# Altium integrated library Diodes - TVS.IntLib: 5379 symbols (part 31 of 122)
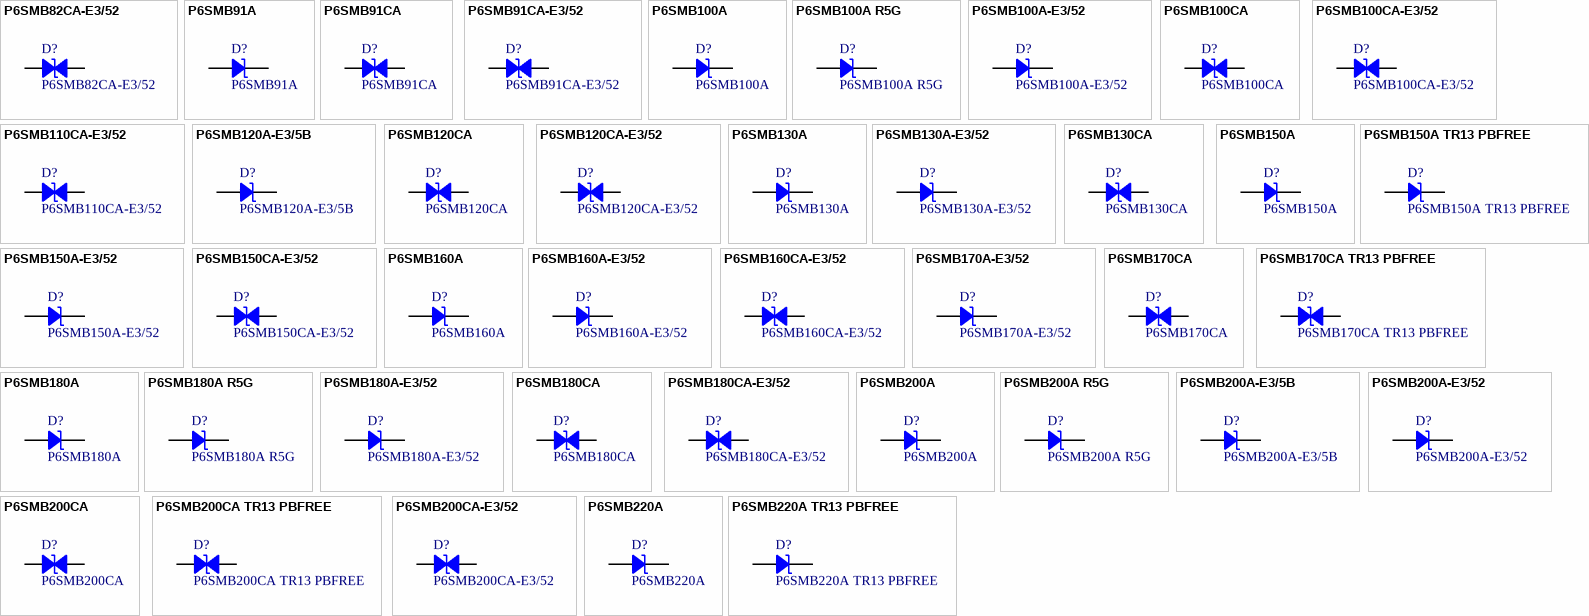
[diagram p164: symbols P6SMB82CA-E3/52 to P6SMB220A TR13 PBFREE]

## P6SMB110CA-E3/52
designator D?
TVS DIODE 94V 152V DO214AA; Manufacturer: Vishay Semiconductor Diodes Division; Bidirectional Channels: 1; Current - Peak Pulse (10/1000µs): 3.9A; Power Line Protection: No; Power - Peak Pulse: 600W; Type: Zener; Voltage - Breakdown (Min): 105V; Part Number: P6SMB110CA-E3/52; Applications: General Purpose; ComponentLink1Description: Datasheet; ComponentLink1URL: http://www.vishay.com/docs/88370/p6smb.pdf; ComponentLink2Description: DigiKey Link; ComponentLink2URL: http://digikey.com/product-detail/en/vishay-semiconductor-diodes-division/P6SMB110CA-E3-52/P6SMB110CA-E3-52GICT-ND/5639085; LastUpdated: 9/2/2020 1:28:22 AM; Lifecycle Status: Active; Minimum Order: 1; Mounting Type: Surface Mount; Operating Temperature: -65°C ~ 150°C (TJ); Package / Case: DO-214AA, SMB; Packaging: TapeAndReel; PartId: 9611; Part Status: Active; Price: 0.20; Series: P6SMB, TransZorb®; Supplier 1: DigiKey; Supplier Part Number 1: P6SMB110CA-E3/52GICT-ND; Supplier Device Package: DO-214AA (SMBJ); Voltage - Clamping (Max) @ Ipp: 152V; Voltage - Reverse Standoff (Typ): 94V
footprint DO214AA SMB
pins: 1, 2

## P6SMB120A-E3/5B
designator D?
TVS DIODE 102V 165V DO214AA; Manufacturer: Vishay Semiconductor Diodes Division; Current - Peak Pulse (10/1000µs): 3.6A; Power Line Protection: No; Power - Peak Pulse: 600W; Type: Zener; Unidirectional Channels: 1; Voltage - Breakdown (Min): 114V; Part Number: P6SMB120A-E3/5B; Applications: General Purpose; ComponentLink1Description: Datasheet; ComponentLink1URL: http://www.vishay.com/docs/88370/p6smb.pdf; ComponentLink2Description: DigiKey Link; ComponentLink2URL: http://digikey.com/product-detail/en/vishay-semiconductor-diodes-division/P6SMB120A-E3-5B/P6SMB120A-E3-5BGICT-ND/3847558; LastUpdated: 9/2/2020 1:19:51 AM; Lifecycle Status: Active; Minimum Order: 1; Mounting Type: Surface Mount; Operating Temperature: -65°C ~ 150°C (TJ); Package / Case: DO-214AA, SMB; Packaging: TapeAndReel; PartId: 11381; Part Status: Active; Price: 0.10; Series: P6SMB, TransZorb®; Supplier 1: DigiKey; Supplier Part Number 1: P6SMB120A-E3/5BGICT-ND; Supplier Device Package: DO-214AA (SMBJ); Voltage - Clamping (Max) @ Ipp: 165V; Voltage - Reverse Standoff (Typ): 102V
footprint DO214AA SMB
pins: 1, 2

## P6SMB120CA
designator D?
TVS DIODE 102V 165V DO214AA; Manufacturer: Bourns Inc.; Bidirectional Channels: 1; Current - Peak Pulse (10/1000µs): 3.7A; Power Line Protection: No; Power - Peak Pulse: 600W; Type: Zener; Voltage - Breakdown (Min): 114V; Part Number: P6SMB120CA; Applications: General Purpose; ComponentLink1Description: Datasheet; ComponentLink1URL: https://www.bourns.com/docs/Product-Datasheets/P6SMB.pdf; ComponentLink2Description: DigiKey Link; ComponentLink2URL: http://digikey.com/product-detail/en/bourns-inc/P6SMB120CA/P6SMB120CABBCT-ND/6708231; LastUpdated: 9/2/2020 1:28:20 AM; Lifecycle Status: Active; Minimum Order: 1; Mounting Type: Surface Mount; Operating Temperature: -55°C ~ 150°C (TJ); Package / Case: DO-214AA, SMB; Packaging: TapeAndReel; PartId: 9392; Part Status: Active; Price: 0.11; Series: -; Supplier 1: DigiKey; Supplier Part Number 1: P6SMB120CABBCT-ND; Supplier Device Package: DO-214AA (SMB); Voltage - Clamping (Max) @ Ipp: 165V; Voltage - Reverse Standoff (Typ): 102V
footprint DO214AA SMB
pins: 1, 2

## P6SMB120CA-E3/52
designator D?
TVS DIODE 102V 165V DO214AA; Manufacturer: Vishay Semiconductor Diodes Division; Bidirectional Channels: 1; Current - Peak Pulse (10/1000µs): 3.6A; Power Line Protection: No; Power - Peak Pulse: 600W; Type: Zener; Voltage - Breakdown (Min): 114V; Part Number: P6SMB120CA-E3/52; Applications: General Purpose; ComponentLink1Description: Datasheet; ComponentLink1URL: http://www.vishay.com/docs/88370/p6smb.pdf; ComponentLink2Description: DigiKey Link; ComponentLink2URL: http://digikey.com/product-detail/en/vishay-semiconductor-diodes-division/P6SMB120CA-E3-52/P6SMB120CA-E3-52GICT-ND/5639086; LastUpdated: 9/2/2020 1:28:22 AM; Lifecycle Status: Active; Minimum Order: 1; Mounting Type: Surface Mount; Operating Temperature: -65°C ~ 150°C (TJ); Package / Case: DO-214AA, SMB; Packaging: TapeAndReel; PartId: 9606; Part Status: Active; Price: 0.20; Series: P6SMB, TransZorb®; Supplier 1: DigiKey; Supplier Part Number 1: P6SMB120CA-E3/52GICT-ND; Supplier Device Package: DO-214AA (SMBJ); Voltage - Clamping (Max) @ Ipp: 165V; Voltage - Reverse Standoff (Typ): 102V
footprint DO214AA SMB
pins: 1, 2

## P6SMB130A
designator D?
TVS DIODE 111V 179V DO214AA; Manufacturer: Littelfuse Inc.; Current - Peak Pulse (10/1000µs): 3.4A; Power Line Protection: No; Power - Peak Pulse: 600W; Type: Zener; Unidirectional Channels: 1; Voltage - Breakdown (Min): 124V; Part Number: P6SMB130A; Applications: General Purpose; ComponentLink1Description: Datasheet; ComponentLink1URL: https://www.littelfuse.com/~/media/electronics/datasheets/tvs_diodes/littelfuse_tvs_diode_p6smb_datasheet.pdf.pdf; ComponentLink2Description: DigiKey Link; ComponentLink2URL: http://digikey.com/product-detail/en/littelfuse-inc/P6SMB130A/P6SMB130ALFCT-ND/1766657; LastUpdated: 9/2/2020 1:19:48 AM; Lifecycle Status: Active; Minimum Order: 1; Mounting Type: Surface Mount; Operating Temperature: -55°C ~ 150°C (TJ); Package / Case: DO-214AA, SMB; Packaging: TapeAndReel; PartId: 11044; Part Status: Active; Price: 0.15; Series: P6SMB; Supplier 1: DigiKey; Supplier Part Number 1: P6SMB130ALFCT-ND; Supplier Device Package: DO-214AA (SMBJ); Voltage - Clamping (Max) @ Ipp: 179V; Voltage - Reverse Standoff (Typ): 111V
footprint DO214AA SMB
pins: 1, 2

## P6SMB130A-E3/52
designator D?
TVS DIODE 111V 179V DO214AA; Manufacturer: Vishay Semiconductor Diodes Division; Current - Peak Pulse (10/1000µs): 3.4A; Power Line Protection: No; Power - Peak Pulse: 600W; Type: Zener; Unidirectional Channels: 1; Voltage - Breakdown (Min): 124V; Part Number: P6SMB130A-E3/52; Applications: General Purpose; ComponentLink1Description: Datasheet; ComponentLink1URL: http://www.vishay.com/docs/88370/p6smb.pdf; ComponentLink2Description: DigiKey Link; ComponentLink2URL: http://digikey.com/product-detail/en/vishay-semiconductor-diodes-division/P6SMB130A-E3-52/P6SMB130A-E3-52GICT-ND/3306481; LastUpdated: 9/2/2020 1:19:44 AM; Lifecycle Status: Active; Minimum Order: 1; Mounting Type: Surface Mount; Operating Temperature: -65°C ~ 150°C (TJ); Package / Case: DO-214AA, SMB; Packaging: TapeAndReel; PartId: 10636; Part Status: Active; Price: 0.15; Series: P6SMB, TransZorb®; Supplier 1: DigiKey; Supplier Part Number 1: P6SMB130A-E3/52GICT-ND; Supplier Device Package: DO-214AA (SMBJ); Voltage - Clamping (Max) @ Ipp: 179V; Voltage - Reverse Standoff (Typ): 111V
footprint DO214AA SMB
pins: 1, 2

## P6SMB130CA
designator D?
TVS DIODE 111V 179V DO214AA; Manufacturer: Bourns Inc.; Bidirectional Channels: 1; Current - Peak Pulse (10/1000µs): 3.4A; Power Line Protection: No; Power - Peak Pulse: 600W; Type: Zener; Voltage - Breakdown (Min): 124V; Part Number: P6SMB130CA; Applications: General Purpose; ComponentLink1Description: Datasheet; ComponentLink1URL: https://www.bourns.com/docs/Product-Datasheets/P6SMB.pdf; ComponentLink2Description: DigiKey Link; ComponentLink2URL: http://digikey.com/product-detail/en/bourns-inc/P6SMB130CA/P6SMB130CABBCT-ND/6708234; LastUpdated: 9/2/2020 1:28:17 AM; Lifecycle Status: Active; Minimum Order: 1; Mounting Type: Surface Mount; Operating Temperature: -55°C ~ 150°C (TJ); Package / Case: DO-214AA, SMB; Packaging: TapeAndReel; PartId: 9104; Part Status: Active; Price: 0.17; Series: -; Supplier 1: DigiKey; Supplier Part Number 1: P6SMB130CABBCT-ND; Supplier Device Package: DO-214AA (SMB); Voltage - Clamping (Max) @ Ipp: 179V; Voltage - Reverse Standoff (Typ): 111V
footprint DO214AA SMB
pins: 1, 2

## P6SMB150A
designator D?
TVS DIODE 128V 207V DO214AA; Manufacturer: Bourns Inc.; Current - Peak Pulse (10/1000µs): 2.9A; Power Line Protection: No; Power - Peak Pulse: 600W; Type: Zener; Unidirectional Channels: 1; Voltage - Breakdown (Min): 143V; Part Number: P6SMB150A; Applications: General Purpose; ComponentLink1Description: Datasheet; ComponentLink1URL: https://www.bourns.com/docs/Product-Datasheets/P6SMB.pdf; ComponentLink2Description: DigiKey Link; ComponentLink2URL: http://digikey.com/product-detail/en/bourns-inc/P6SMB150A/P6SMB150ABBCT-ND/6181594; LastUpdated: 9/2/2020 1:19:47 AM; Lifecycle Status: Active; Minimum Order: 1; Mounting Type: Surface Mount; Operating Temperature: -55°C ~ 150°C (TJ); Package / Case: DO-214AA, SMB; Packaging: TapeAndReel; PartId: 10885; Part Status: Active; Price: 0.09; Series: -; Supplier 1: DigiKey; Supplier Part Number 1: P6SMB150ABBCT-ND; Supplier Device Package: DO-214AA (SMB); Voltage - Clamping (Max) @ Ipp: 207V; Voltage - Reverse Standoff (Typ): 128V
footprint DO214AA SMB
pins: 1, 2

## P6SMB150A TR13 PBFREE
designator D?
TVS DIODE 128V 207V SMB; Manufacturer: Central Semiconductor Corp; Current - Peak Pulse (10/1000µs): 2.9A; Power Line Protection: No; Power - Peak Pulse: 600W; Type: Zener; Unidirectional Channels: 1; Voltage - Breakdown (Min): 142.5V; Part Number: P6SMB150A TR13 PBFREE; Applications: General Purpose; ComponentLink1Description: Datasheet; ComponentLink1URL: https://my.centralsemi.com/get_document.php?cmp=1&mergetype=pd&mergepath=pd&pdf_id=P6SMB6.8CA_200CA.PDF; ComponentLink2Description: DigiKey Link; ComponentLink2URL: http://digikey.com/product-detail/en/central-semiconductor-corp/P6SMB150A-TR13-PBFREE/1514-P6SMB150ATR13PBFREECT-ND/5324614; LastUpdated: 9/2/2020 1:19:48 AM; Lifecycle Status: Active; Minimum Order: 1; Mounting Type: Surface Mount; Operating Temperature: -65°C ~ 150°C (TJ); Package / Case: DO-214AA, SMB; Packaging: TapeAndReel; PartId: 11017; Part Status: Active; Price: 0.19; Series: -; Supplier 1: DigiKey; Supplier Part Number 1: 1514-P6SMB150ATR13PBFREECT-ND; Supplier Device Package: SMB; Voltage - Clamping (Max) @ Ipp: 207V; Voltage - Reverse Standoff (Typ): 128V
footprint DO214AA SMB
pins: 1, 2

## P6SMB150A-E3/52
designator D?
TVS DIODE 128V 207V DO214AA; Manufacturer: Vishay Semiconductor Diodes Division; Current - Peak Pulse (10/1000µs): 2.9A; Power Line Protection: No; Power - Peak Pulse: 600W; Type: Zener; Unidirectional Channels: 1; Voltage - Breakdown (Min): 143V; Part Number: P6SMB150A-E3/52; Applications: General Purpose; ComponentLink1Description: Datasheet; ComponentLink1URL: http://www.vishay.com/docs/88370/p6smb.pdf; ComponentLink2Description: DigiKey Link; ComponentLink2URL: http://digikey.com/product-detail/en/vishay-semiconductor-diodes-division/P6SMB150A-E3-52/P6SMB150A-E3-52GICT-ND/3306485; LastUpdated: 9/2/2020 1:19:49 AM; Lifecycle Status: Active; Minimum Order: 1; Mounting Type: Surface Mount; Operating Temperature: -65°C ~ 150°C (TJ); Package / Case: DO-214AA, SMB; Packaging: TapeAndReel; PartId: 11123; Part Status: Active; Price: 0.15; Series: P6SMB, TransZorb®; Supplier 1: DigiKey; Supplier Part Number 1: P6SMB150A-E3/52GICT-ND; Supplier Device Package: DO-214AA (SMBJ); Voltage - Clamping (Max) @ Ipp: 207V; Voltage - Reverse Standoff (Typ): 128V
footprint DO214AA SMB
pins: 1, 2

## P6SMB150CA-E3/52
designator D?
TVS DIODE 128V 207V DO214AA; Manufacturer: Vishay Semiconductor Diodes Division; Bidirectional Channels: 1; Current - Peak Pulse (10/1000µs): 2.9A; Power Line Protection: No; Power - Peak Pulse: 600W; Type: Zener; Voltage - Breakdown (Min): 143V; Part Number: P6SMB150CA-E3/52; Applications: General Purpose; ComponentLink1Description: Datasheet; ComponentLink1URL: http://www.vishay.com/docs/88370/p6smb.pdf; ComponentLink2Description: DigiKey Link; ComponentLink2URL: http://digikey.com/product-detail/en/vishay-semiconductor-diodes-division/P6SMB150CA-E3-52/P6SMB150CA-E3-52GICT-ND/3306486; LastUpdated: 9/2/2020 1:28:16 AM; Lifecycle Status: Active; Minimum Order: 1; Mounting Type: Surface Mount; Operating Temperature: -65°C ~ 150°C (TJ); Package / Case: DO-214AA, SMB; Packaging: TapeAndReel; PartId: 8926; Part Status: Active; Price: 0.20; Series: P6SMB, TransZorb®; Supplier 1: DigiKey; Supplier Part Number 1: P6SMB150CA-E3/52GICT-ND; Supplier Device Package: DO-214AA (SMBJ); Voltage - Clamping (Max) @ Ipp: 207V; Voltage - Reverse Standoff (Typ): 128V
footprint DO214AA SMB
pins: 1, 2

## P6SMB160A
designator D?
TVS DIODE 136V 219V DO214AA; Manufacturer: Bourns Inc.; Current - Peak Pulse (10/1000µs): 2.8A; Power Line Protection: No; Power - Peak Pulse: 600W; Type: Zener; Unidirectional Channels: 1; Voltage - Breakdown (Min): 152V; Part Number: P6SMB160A; Applications: General Purpose; ComponentLink1Description: Datasheet; ComponentLink1URL: https://www.bourns.com/docs/Product-Datasheets/P6SMB.pdf; ComponentLink2Description: DigiKey Link; ComponentLink2URL: http://digikey.com/product-detail/en/bourns-inc/P6SMB160A/P6SMB160ABBCT-ND/6708237; LastUpdated: 9/2/2020 1:19:43 AM; Lifecycle Status: Active; Minimum Order: 1; Mounting Type: Surface Mount; Operating Temperature: -55°C ~ 150°C (TJ); Package / Case: DO-214AA, SMB; Packaging: TapeAndReel; PartId: 10560; Part Status: Active; Price: 0.10; Series: -; Supplier 1: DigiKey; Supplier Part Number 1: P6SMB160ABBCT-ND; Supplier Device Package: DO-214AA (SMB); Voltage - Clamping (Max) @ Ipp: 219V; Voltage - Reverse Standoff (Typ): 136V
footprint DO214AA SMB
pins: 1, 2

## P6SMB160A-E3/52
designator D?
TVS DIODE 136V 219V DO214AA; Manufacturer: Vishay Semiconductor Diodes Division; Current - Peak Pulse (10/1000µs): 2.7A; Power Line Protection: No; Power - Peak Pulse: 600W; Type: Zener; Unidirectional Channels: 1; Voltage - Breakdown (Min): 152V; Part Number: P6SMB160A-E3/52; Applications: General Purpose; ComponentLink1Description: Datasheet; ComponentLink1URL: http://www.vishay.com/docs/88370/p6smb.pdf; ComponentLink2Description: DigiKey Link; ComponentLink2URL: http://digikey.com/product-detail/en/vishay-semiconductor-diodes-division/P6SMB160A-E3-52/P6SMB160A-E3-52GICT-ND/2413464; LastUpdated: 9/2/2020 1:19:44 AM; Lifecycle Status: Active; Minimum Order: 1; Mounting Type: Surface Mount; Operating Temperature: -65°C ~ 150°C (TJ); Package / Case: DO-214AA, SMB; Packaging: TapeAndReel; PartId: 10637; Part Status: Active; Price: 0.15; Series: P6SMB, TransZorb®; Supplier 1: DigiKey; Supplier Part Number 1: P6SMB160A-E3/52GICT-ND; Supplier Device Package: DO-214AA (SMBJ); Voltage - Clamping (Max) @ Ipp: 219V; Voltage - Reverse Standoff (Typ): 136V
footprint DO214AA SMB
pins: 1, 2

## P6SMB160CA-E3/52
designator D?
TVS DIODE 136V 219V DO214AA; Manufacturer: Vishay Semiconductor Diodes Division; Bidirectional Channels: 1; Current - Peak Pulse (10/1000µs): 2.7A; Power Line Protection: No; Power - Peak Pulse: 600W; Type: Zener; Voltage - Breakdown (Min): 152V; Part Number: P6SMB160CA-E3/52; Applications: General Purpose; ComponentLink1Description: Datasheet; ComponentLink1URL: http://www.vishay.com/docs/88370/p6smb.pdf; ComponentLink2Description: DigiKey Link; ComponentLink2URL: http://digikey.com/product-detail/en/vishay-semiconductor-diodes-division/P6SMB160CA-E3-52/P6SMB160CA-E3-52GICT-ND/5639087; LastUpdated: 9/2/2020 1:28:16 AM; Lifecycle Status: Active; Minimum Order: 1; Mounting Type: Surface Mount; Operating Temperature: -65°C ~ 150°C (TJ); Package / Case: DO-214AA, SMB; Packaging: TapeAndReel; PartId: 8927; Part Status: Active; Price: 0.20; Series: P6SMB, TransZorb®; Supplier 1: DigiKey; Supplier Part Number 1: P6SMB160CA-E3/52GICT-ND; Supplier Device Package: DO-214AA (SMBJ); Voltage - Clamping (Max) @ Ipp: 219V; Voltage - Reverse Standoff (Typ): 136V
footprint DO214AA SMB
pins: 1, 2

## P6SMB170A-E3/52
designator D?
TVS DIODE 145V 234V DO214AA; Manufacturer: Vishay Semiconductor Diodes Division; Current - Peak Pulse (10/1000µs): 2.6A; Power Line Protection: No; Power - Peak Pulse: 600W; Type: Zener; Unidirectional Channels: 1; Voltage - Breakdown (Min): 162V; Part Number: P6SMB170A-E3/52; Applications: General Purpose; ComponentLink1Description: Datasheet; ComponentLink1URL: http://www.vishay.com/docs/88370/p6smb.pdf; ComponentLink2Description: DigiKey Link; ComponentLink2URL: http://digikey.com/product-detail/en/vishay-semiconductor-diodes-division/P6SMB170A-E3-52/P6SMB170A-E3-52GICT-ND/5639088; LastUpdated: 9/2/2020 1:19:44 AM; Lifecycle Status: Active; Minimum Order: 1; Mounting Type: Surface Mount; Operating Temperature: -65°C ~ 150°C (TJ); Package / Case: DO-214AA, SMB; Packaging: TapeAndReel; PartId: 10630; Part Status: Active; Price: 0.15; Series: P6SMB, TransZorb®; Supplier 1: DigiKey; Supplier Part Number 1: P6SMB170A-E3/52GICT-ND; Supplier Device Package: DO-214AA (SMBJ); Voltage - Clamping (Max) @ Ipp: 234V; Voltage - Reverse Standoff (Typ): 145V
footprint DO214AA SMB
pins: 1, 2

## P6SMB170CA
designator D?
TVS DIODE 145V 234V DO214AA; Manufacturer: Bourns Inc.; Bidirectional Channels: 1; Current - Peak Pulse (10/1000µs): 2.6A; Power Line Protection: No; Power - Peak Pulse: 600W; Type: Zener; Voltage - Breakdown (Min): 162V; Part Number: P6SMB170CA; Applications: General Purpose; ComponentLink1Description: Datasheet; ComponentLink1URL: https://www.bourns.com/docs/Product-Datasheets/P6SMB.pdf; ComponentLink2Description: DigiKey Link; ComponentLink2URL: http://digikey.com/product-detail/en/bourns-inc/P6SMB170CA/P6SMB170CABBCT-ND/6708239; LastUpdated: 9/2/2020 1:28:17 AM; Lifecycle Status: Active; Minimum Order: 1; Mounting Type: Surface Mount; Operating Temperature: -55°C ~ 150°C (TJ); Package / Case: DO-214AA, SMB; Packaging: TapeAndReel; PartId: 9035; Part Status: Active; Price: 0.17; Series: -; Supplier 1: DigiKey; Supplier Part Number 1: P6SMB170CABBCT-ND; Supplier Device Package: DO-214AA (SMB); Voltage - Clamping (Max) @ Ipp: 234V; Voltage - Reverse Standoff (Typ): 145V
footprint DO214AA SMB
pins: 1, 2

## P6SMB170CA TR13 PBFREE
designator D?
TVS DIODE 145V 234V SMB; Manufacturer: Central Semiconductor Corp; Bidirectional Channels: 1; Current - Peak Pulse (10/1000µs): 2.6A; Power Line Protection: No; Power - Peak Pulse: 600W; Type: Zener; Voltage - Breakdown (Min): 161.5V; Part Number: P6SMB170CA TR13 PBFREE; Applications: General Purpose; ComponentLink1Description: Datasheet; ComponentLink1URL: https://my.centralsemi.com/get_document.php?cmp=1&mergetype=pd&mergepath=pd&pdf_id=P6SMB6.8CA_200CA.PDF; ComponentLink2Description: DigiKey Link; ComponentLink2URL: http://digikey.com/product-detail/en/central-semiconductor-corp/P6SMB170CA-TR13-PBFREE/1514-P6SMB170CATR13PBFREECT-ND/5324615; LastUpdated: 9/2/2020 1:28:21 AM; Lifecycle Status: Active; Minimum Order: 1; Mounting Type: Surface Mount; Operating Temperature: -65°C ~ 150°C (TJ); Package / Case: DO-214AA, SMB; Packaging: TapeAndReel; PartId: 9596; Part Status: Active; Price: 0.23; Series: -; Supplier 1: DigiKey; Supplier Part Number 1: 1514-P6SMB170CATR13PBFREECT-ND; Supplier Device Package: SMB; Voltage - Clamping (Max) @ Ipp: 234V; Voltage - Reverse Standoff (Typ): 145V
footprint DO214AA SMB
pins: 1, 2

## P6SMB180A
designator D?
TVS DIODE 154V 246V DO214AA; Manufacturer: Bourns Inc.; Current - Peak Pulse (10/1000µs): 2.5A; Power Line Protection: No; Power - Peak Pulse: 600W; Type: Zener; Unidirectional Channels: 1; Voltage - Breakdown (Min): 171V; Part Number: P6SMB180A; Applications: General Purpose; ComponentLink1Description: Datasheet; ComponentLink1URL: https://www.bourns.com/docs/Product-Datasheets/P6SMB.pdf; ComponentLink2Description: DigiKey Link; ComponentLink2URL: http://digikey.com/product-detail/en/bourns-inc/P6SMB180A/P6SMB180ABBCT-ND/6181597; LastUpdated: 9/2/2020 1:19:44 AM; Lifecycle Status: Active; Minimum Order: 1; Mounting Type: Surface Mount; Operating Temperature: -55°C ~ 150°C (TJ); Package / Case: DO-214AA, SMB; Packaging: TapeAndReel; PartId: 10670; Part Status: Active; Price: 0.09; Series: -; Supplier 1: DigiKey; Supplier Part Number 1: P6SMB180ABBCT-ND; Supplier Device Package: DO-214AA (SMB); Voltage - Clamping (Max) @ Ipp: 246V; Voltage - Reverse Standoff (Typ): 154V
footprint DO214AA SMB
pins: 1, 2

## P6SMB180A R5G
designator D?
TVS DIODE 154V 246V DO214AA; Manufacturer: Taiwan Semiconductor Corporation; Current - Peak Pulse (10/1000µs): 2.5A; Power Line Protection: No; Power - Peak Pulse: 600W; Type: Zener; Unidirectional Channels: 1; Voltage - Breakdown (Min): 171V; Part Number: P6SMB180A R5G; Applications: General Purpose; ComponentLink1Description: Datasheet; ComponentLink1URL: https://www.taiwansemi.com/products/datasheet/P6SMB%20SERIES_N1701.pdf; ComponentLink2Description: DigiKey Link; ComponentLink2URL: http://digikey.com/product-detail/en/taiwan-semiconductor-corporation/P6SMB180A-R5G/P6SMB180AR5GCT-ND/7357978; LastUpdated: 9/2/2020 1:19:50 AM; Lifecycle Status: Active; Minimum Order: 1; Mounting Type: Surface Mount; Operating Temperature: -55°C ~ 150°C (TJ); Package / Case: DO-214AA, SMB; Packaging: TapeAndReel; PartId: 11292; Part Status: Active; Price: 0.31; Series: P6SMB; Supplier 1: DigiKey; Supplier Part Number 1: P6SMB180AR5GCT-ND; Supplier Device Package: DO-214AA (SMB); Voltage - Clamping (Max) @ Ipp: 246V; Voltage - Reverse Standoff (Typ): 154V
footprint DO214AA SMB
pins: 1, 2

## P6SMB180A-E3/52
designator D?
TVS DIODE 154V 246V DO214AA; Manufacturer: Vishay Semiconductor Diodes Division; Current - Peak Pulse (10/1000µs): 2.4A; Power Line Protection: No; Power - Peak Pulse: 600W; Type: Zener; Unidirectional Channels: 1; Voltage - Breakdown (Min): 171V; Part Number: P6SMB180A-E3/52; Applications: General Purpose; ComponentLink1Description: Datasheet; ComponentLink1URL: http://www.vishay.com/docs/88370/p6smb.pdf; ComponentLink2Description: DigiKey Link; ComponentLink2URL: http://digikey.com/product-detail/en/vishay-semiconductor-diodes-division/P6SMB180A-E3-52/P6SMB180A-E3-52GICT-ND/5639090; LastUpdated: 9/2/2020 1:19:44 AM; Lifecycle Status: Active; Minimum Order: 1; Mounting Type: Surface Mount; Operating Temperature: -65°C ~ 150°C (TJ); Package / Case: DO-214AA, SMB; Packaging: TapeAndReel; PartId: 10641; Part Status: Active; Price: 0.15; Series: P6SMB, TransZorb®; Supplier 1: DigiKey; Supplier Part Number 1: P6SMB180A-E3/52GICT-ND; Supplier Device Package: DO-214AA (SMBJ); Voltage - Clamping (Max) @ Ipp: 246V; Voltage - Reverse Standoff (Typ): 154V
footprint DO214AA SMB
pins: 1, 2

## P6SMB180CA
designator D?
TVS DIODE 154V 246V DO214AA; Manufacturer: Bourns Inc.; Bidirectional Channels: 1; Current - Peak Pulse (10/1000µs): 2.5A; Power Line Protection: No; Power - Peak Pulse: 600W; Type: Zener; Voltage - Breakdown (Min): 171V; Part Number: P6SMB180CA; Applications: General Purpose; ComponentLink1Description: Datasheet; ComponentLink1URL: https://www.bourns.com/docs/Product-Datasheets/P6SMB.pdf; ComponentLink2Description: DigiKey Link; ComponentLink2URL: http://digikey.com/product-detail/en/bourns-inc/P6SMB180CA/P6SMB180CABBCT-ND/6708240; LastUpdated: 9/2/2020 1:28:16 AM; Lifecycle Status: Active; Minimum Order: 1; Mounting Type: Surface Mount; Operating Temperature: -55°C ~ 150°C (TJ); Package / Case: DO-214AA, SMB; Packaging: TapeAndReel; PartId: 8958; Part Status: Active; Price: 0.17; Series: -; Supplier 1: DigiKey; Supplier Part Number 1: P6SMB180CABBCT-ND; Supplier Device Package: DO-214AA (SMB); Voltage - Clamping (Max) @ Ipp: 246V; Voltage - Reverse Standoff (Typ): 154V
footprint DO214AA SMB
pins: 1, 2

## P6SMB180CA-E3/52
designator D?
TVS DIODE 154V 246V DO214AA; Manufacturer: Vishay Semiconductor Diodes Division; Bidirectional Channels: 1; Current - Peak Pulse (10/1000µs): 2.4A; Power Line Protection: No; Power - Peak Pulse: 600W; Type: Zener; Voltage - Breakdown (Min): 171V; Part Number: P6SMB180CA-E3/52; Applications: General Purpose; ComponentLink1Description: Datasheet; ComponentLink1URL: http://www.vishay.com/docs/88370/p6smb.pdf; ComponentLink2Description: DigiKey Link; ComponentLink2URL: http://digikey.com/product-detail/en/vishay-semiconductor-diodes-division/P6SMB180CA-E3-52/P6SMB180CA-E3-52GICT-ND/5639091; LastUpdated: 9/2/2020 1:28:21 AM; Lifecycle Status: Active; Minimum Order: 1; Mounting Type: Surface Mount; Operating Temperature: -65°C ~ 150°C (TJ); Package / Case: DO-214AA, SMB; Packaging: TapeAndReel; PartId: 9604; Part Status: Active; Price: 0.20; Series: P6SMB, TransZorb®; Supplier 1: DigiKey; Supplier Part Number 1: P6SMB180CA-E3/52GICT-ND; Supplier Device Package: DO-214AA (SMBJ); Voltage - Clamping (Max) @ Ipp: 246V; Voltage - Reverse Standoff (Typ): 154V
footprint DO214AA SMB
pins: 1, 2

## P6SMB200A
designator D?
TVS DIODE 171V 274V DO214AA; Manufacturer: Bourns Inc.; Current - Peak Pulse (10/1000µs): 2.2A; Power Line Protection: No; Power - Peak Pulse: 600W; Type: Zener; Unidirectional Channels: 1; Voltage - Breakdown (Min): 190V; Part Number: P6SMB200A; Applications: General Purpose; ComponentLink1Description: Datasheet; ComponentLink1URL: https://www.bourns.com/docs/Product-Datasheets/P6SMB.pdf; ComponentLink2Description: DigiKey Link; ComponentLink2URL: http://digikey.com/product-detail/en/bourns-inc/P6SMB200A/P6SMB200ABBCT-ND/6181599; LastUpdated: 9/2/2020 1:19:47 AM; Lifecycle Status: Active; Minimum Order: 1; Mounting Type: Surface Mount; Operating Temperature: -55°C ~ 150°C (TJ); Package / Case: DO-214AA, SMB; Packaging: TapeAndReel; PartId: 10892; Part Status: Active; Price: 0.09; Series: -; Supplier 1: DigiKey; Supplier Part Number 1: P6SMB200ABBCT-ND; Supplier Device Package: DO-214AA (SMB); Voltage - Clamping (Max) @ Ipp: 274V; Voltage - Reverse Standoff (Typ): 171V
footprint DO214AA SMB
pins: 1, 2

## P6SMB200A R5G
designator D?
TVS DIODE 171V 274V DO214AA; Manufacturer: Taiwan Semiconductor Corporation; Current - Peak Pulse (10/1000µs): 2.2A; Power Line Protection: No; Power - Peak Pulse: 600W; Type: Zener; Unidirectional Channels: 1; Voltage - Breakdown (Min): 190V; Part Number: P6SMB200A R5G; Applications: General Purpose; ComponentLink1Description: Datasheet; ComponentLink1URL: https://www.taiwansemi.com/products/datasheet/P6SMB%20SERIES_N1701.pdf; ComponentLink2Description: DigiKey Link; ComponentLink2URL: http://digikey.com/product-detail/en/taiwan-semiconductor-corporation/P6SMB200A-R5G/P6SMB200AR5GCT-ND/7357981; LastUpdated: 9/2/2020 1:19:50 AM; Lifecycle Status: Active; Minimum Order: 1; Mounting Type: Surface Mount; Operating Temperature: -55°C ~ 150°C (TJ); Package / Case: DO-214AA, SMB; Packaging: TapeAndReel; PartId: 11293; Part Status: Active; Price: 0.31; Series: P6SMB; Supplier 1: DigiKey; Supplier Part Number 1: P6SMB200AR5GCT-ND; Supplier Device Package: DO-214AA (SMB); Voltage - Clamping (Max) @ Ipp: 274V; Voltage - Reverse Standoff (Typ): 171V
footprint DO214AA SMB
pins: 1, 2

## P6SMB200A-E3/5B
designator D?
TVS DIODE 171V 274V DO214AA; Manufacturer: Vishay Semiconductor Diodes Division; Current - Peak Pulse (10/1000µs): 2.2A; Power Line Protection: No; Power - Peak Pulse: 600W; Type: Zener; Unidirectional Channels: 1; Voltage - Breakdown (Min): 190V; Part Number: P6SMB200A-E3/5B; Applications: General Purpose; ComponentLink1Description: Datasheet; ComponentLink1URL: http://www.vishay.com/docs/88370/p6smb.pdf; ComponentLink2Description: DigiKey Link; ComponentLink2URL: http://digikey.com/product-detail/en/vishay-semiconductor-diodes-division/P6SMB200A-E3-5B/P6SMB200A-E3-5BGICT-ND/9600824; LastUpdated: 9/2/2020 1:19:51 AM; Lifecycle Status: Active; Minimum Order: 1; Mounting Type: Surface Mount; Operating Temperature: -65°C ~ 150°C (TJ); Package / Case: DO-214AA, SMB; Packaging: TapeAndReel; PartId: 11375; Part Status: Active; Price: 0.10; Series: P6SMB, TransZorb®; Supplier 1: DigiKey; Supplier Part Number 1: P6SMB200A-E3/5BGICT-ND; Supplier Device Package: DO-214AA (SMB); Voltage - Clamping (Max) @ Ipp: 274V; Voltage - Reverse Standoff (Typ): 171V
footprint DO214AA SMB
pins: 1, 2

## P6SMB200A-E3/52
designator D?
TVS DIODE 171V 274V DO214AA; Manufacturer: Vishay Semiconductor Diodes Division; Current - Peak Pulse (10/1000µs): 2.2A; Power Line Protection: No; Power - Peak Pulse: 600W; Type: Zener; Unidirectional Channels: 1; Voltage - Breakdown (Min): 190V; Part Number: P6SMB200A-E3/52; Applications: General Purpose; ComponentLink1Description: Datasheet; ComponentLink1URL: http://www.vishay.com/docs/88370/p6smb.pdf; ComponentLink2Description: DigiKey Link; ComponentLink2URL: http://digikey.com/product-detail/en/vishay-semiconductor-diodes-division/P6SMB200A-E3-52/P6SMB200A-E3-52GICT-ND/2413379; LastUpdated: 9/2/2020 1:19:44 AM; Lifecycle Status: Active; Minimum Order: 1; Mounting Type: Surface Mount; Operating Temperature: -65°C ~ 150°C (TJ); Package / Case: DO-214AA, SMB; Packaging: TapeAndReel; PartId: 10640; Part Status: Active; Price: 0.15; Series: P6SMB, TransZorb®; Supplier 1: DigiKey; Supplier Part Number 1: P6SMB200A-E3/52GICT-ND; Supplier Device Package: DO-214AA (SMB); Voltage - Clamping (Max) @ Ipp: 274V; Voltage - Reverse Standoff (Typ): 171V
footprint DO214AA SMB
pins: 1, 2

## P6SMB200CA
designator D?
TVS DIODE 171V 274V DO214AA; Manufacturer: Bourns Inc.; Bidirectional Channels: 1; Current - Peak Pulse (10/1000µs): 2.2A; Power Line Protection: No; Power - Peak Pulse: 600W; Type: Zener; Voltage - Breakdown (Min): 190V; Part Number: P6SMB200CA; Applications: General Purpose; ComponentLink1Description: Datasheet; ComponentLink1URL: https://www.bourns.com/docs/Product-Datasheets/P6SMB.pdf; ComponentLink2Description: DigiKey Link; ComponentLink2URL: http://digikey.com/product-detail/en/bourns-inc/P6SMB200CA/P6SMB200CABBCT-ND/6708242; LastUpdated: 9/2/2020 1:28:20 AM; Lifecycle Status: Active; Minimum Order: 1; Mounting Type: Surface Mount; Operating Temperature: -55°C ~ 150°C (TJ); Package / Case: DO-214AA, SMB; Packaging: TapeAndReel; PartId: 9357; Part Status: Active; Price: 0.17; Series: -; Supplier 1: DigiKey; Supplier Part Number 1: P6SMB200CABBCT-ND; Supplier Device Package: DO-214AA (SMB); Voltage - Clamping (Max) @ Ipp: 274V; Voltage - Reverse Standoff (Typ): 171V
footprint DO214AA SMB
pins: 1, 2

## P6SMB200CA TR13 PBFREE
designator D?
TVS DIODE 171V 274V SMB; Manufacturer: Central Semiconductor Corp; Bidirectional Channels: 1; Current - Peak Pulse (10/1000µs): 2.2A; Power Line Protection: No; Power - Peak Pulse: 600W; Type: Zener; Voltage - Breakdown (Min): 190V; Part Number: P6SMB200CA TR13 PBFREE; Applications: General Purpose; ComponentLink1Description: Datasheet; ComponentLink1URL: https://my.centralsemi.com/get_document.php?cmp=1&mergetype=pd&mergepath=pd&pdf_id=P6SMB6.8CA_200CA.PDF; ComponentLink2Description: DigiKey Link; ComponentLink2URL: http://digikey.com/product-detail/en/central-semiconductor-corp/P6SMB200CA-TR13-PBFREE/1514-P6SMB200CATR13PBFREECT-ND/5324617; LastUpdated: 9/2/2020 1:28:17 AM; Lifecycle Status: Active; Minimum Order: 1; Mounting Type: Surface Mount; Operating Temperature: -65°C ~ 150°C (TJ); Package / Case: DO-214AA, SMB; Packaging: TapeAndReel; PartId: 9009; Part Status: Active; Price: 0.45; Series: -; Supplier 1: DigiKey; Supplier Part Number 1: 1514-P6SMB200CATR13PBFREECT-ND; Supplier Device Package: SMB; Voltage - Clamping (Max) @ Ipp: 274V; Voltage - Reverse Standoff (Typ): 171V
footprint DO214AA SMB
pins: 1, 2

## P6SMB200CA-E3/52
designator D?
TVS DIODE 171V 274V DO214AA; Manufacturer: Vishay Semiconductor Diodes Division; Bidirectional Channels: 1; Current - Peak Pulse (10/1000µs): 2.2A; Power Line Protection: No; Power - Peak Pulse: 600W; Type: Zener; Voltage - Breakdown (Min): 190V; Part Number: P6SMB200CA-E3/52; Applications: General Purpose; ComponentLink1Description: Datasheet; ComponentLink1URL: http://www.vishay.com/docs/88370/p6smb.pdf; ComponentLink2Description: DigiKey Link; ComponentLink2URL: http://digikey.com/product-detail/en/vishay-semiconductor-diodes-division/P6SMB200CA-E3-52/P6SMB200CA-E3-52GICT-ND/3306493; LastUpdated: 9/2/2020 1:28:16 AM; Lifecycle Status: Active; Minimum Order: 1; Mounting Type: Surface Mount; Operating Temperature: -65°C ~ 150°C (TJ); Package / Case: DO-214AA, SMB; Packaging: TapeAndReel; PartId: 8929; Part Status: Active; Price: 0.20; Series: P6SMB, TransZorb®; Supplier 1: DigiKey; Supplier Part Number 1: P6SMB200CA-E3/52GICT-ND; Supplier Device Package: DO-214AA (SMB); Voltage - Clamping (Max) @ Ipp: 274V; Voltage - Reverse Standoff (Typ): 171V
footprint DO214AA SMB
pins: 1, 2

## P6SMB220A
designator D?
TVS DIODE 185V 328V DO214AA; Manufacturer: Bourns Inc.; Current - Peak Pulse (10/1000µs): 1.9A; Power Line Protection: No; Power - Peak Pulse: 600W; Type: Zener; Unidirectional Channels: 1; Voltage - Breakdown (Min): 209V; Part Number: P6SMB220A; Applications: General Purpose; ComponentLink1Description: Datasheet; ComponentLink1URL: https://www.bourns.com/docs/Product-Datasheets/P6SMB.pdf; ComponentLink2Description: DigiKey Link; ComponentLink2URL: http://digikey.com/product-detail/en/bourns-inc/P6SMB220A/P6SMB220ABBCT-ND/6181600; LastUpdated: 9/2/2020 1:19:48 AM; Lifecycle Status: Active; Minimum Order: 1; Mounting Type: Surface Mount; Operating Temperature: -55°C ~ 150°C (TJ); Package / Case: DO-214AA, SMB; Packaging: TapeAndReel; PartId: 11030; Part Status: Active; Price: 0.17; Series: -; Supplier 1: DigiKey; Supplier Part Number 1: P6SMB220ABBCT-ND; Supplier Device Package: DO-214AA (SMB); Voltage - Clamping (Max) @ Ipp: 328V; Voltage - Reverse Standoff (Typ): 185V
footprint DO214AA SMB
pins: 1, 2

## P6SMB220A TR13 PBFREE
designator D?
TVS DIODE 185V 328V SMB; Manufacturer: Central Semiconductor Corp; Current - Peak Pulse (10/1000µs): 1.8A; Power Line Protection: No; Power - Peak Pulse: 600W; Type: Zener; Unidirectional Channels: 1; Voltage - Breakdown (Min): 209V; Part Number: P6SMB220A TR13 PBFREE; Applications: General Purpose; ComponentLink1Description: Datasheet; ComponentLink1URL: https://my.centralsemi.com/get_document.php?cmp=1&mergetype=pd&mergepath=pd&pdf_id=P6SMB6.8A_200A.PDF; ComponentLink2Description: DigiKey Link; ComponentLink2URL: http://digikey.com/product-detail/en/central-semiconductor-corp/P6SMB220A-TR13-PBFREE/1514-P6SMB220ATR13PBFREECT-ND/5324618; LastUpdated: 9/2/2020 1:19:45 AM; Lifecycle Status: Active; Minimum Order: 1; Mounting Type: Surface Mount; Operating Temperature: -65°C ~ 150°C (TJ); Package / Case: DO-214AA, SMB; Packaging: CutTape; PartId: 10793; Part Status: Active; Price: 0.54; Series: -; Supplier 1: DigiKey; Supplier Part Number 1: 1514-P6SMB220ATR13PBFREECT-ND; Supplier Device Package: SMB; Voltage - Clamping (Max) @ Ipp: 328V; Voltage - Reverse Standoff (Typ): 185V
footprint DO214AA SMB
pins: 1, 2

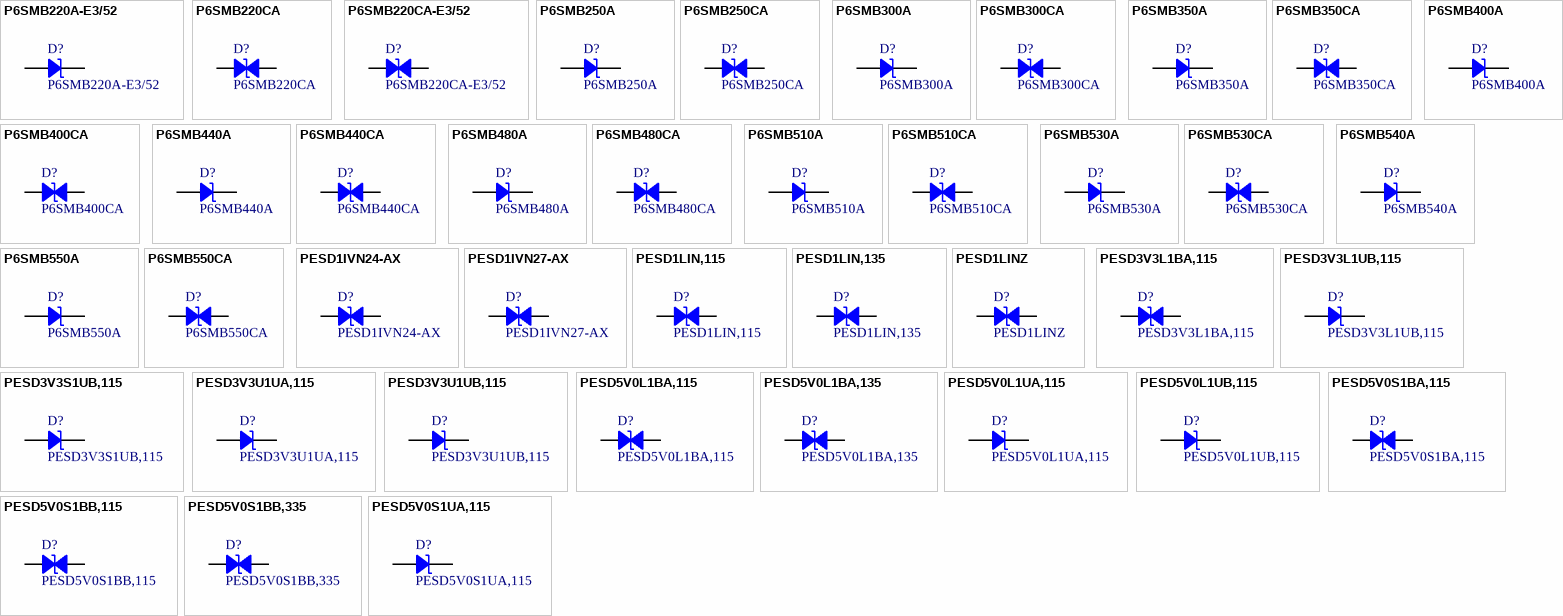
[diagram p34: symbols P6SMB220A-E3/52 to PESD5V0S1UA,115]

## P6SMB220A-E3/52
designator D?
TVS DIODE 185V 328V DO214AA; Manufacturer: Vishay Semiconductor Diodes Division; Current - Peak Pulse (10/1000µs): 1.8A; Power Line Protection: No; Power - Peak Pulse: 600W; Type: Zener; Unidirectional Channels: 1; Voltage - Breakdown (Min): 209V; Part Number: P6SMB220A-E3/52; Applications: General Purpose; ComponentLink1Description: Datasheet; ComponentLink1URL: http://www.vishay.com/docs/88370/p6smb.pdf; ComponentLink2Description: DigiKey Link; ComponentLink2URL: http://digikey.com/product-detail/en/vishay-semiconductor-diodes-division/P6SMB220A-E3-52/P6SMB220A-E3-52GICT-ND/3306496; LastUpdated: 9/2/2020 1:19:44 AM; Lifecycle Status: Active; Minimum Order: 1; Mounting Type: Surface Mount; Operating Temperature: -65°C ~ 150°C (TJ); Package / Case: DO-214AA, SMB; Packaging: TapeAndReel; PartId: 10633; Part Status: Active; Price: 0.15; Series: P6SMB, TransZorb®; Supplier 1: DigiKey; Supplier Part Number 1: P6SMB220A-E3/52GICT-ND; Supplier Device Package: DO-214AA (SMB); Voltage - Clamping (Max) @ Ipp: 328V; Voltage - Reverse Standoff (Typ): 185V
footprint DO214AA SMB
pins: 1, 2

## P6SMB220CA
designator D?
TVS DIODE 185V 328V DO214AA; Manufacturer: Littelfuse Inc.; Bidirectional Channels: 1; Current - Peak Pulse (10/1000µs): 1.9A; Power Line Protection: No; Power - Peak Pulse: 600W; Type: Zener; Voltage - Breakdown (Min): 209V; Part Number: P6SMB220CA; Applications: General Purpose; ComponentLink1Description: Datasheet; ComponentLink1URL: https://www.littelfuse.com/~/media/electronics/datasheets/tvs_diodes/littelfuse_tvs_diode_p6smb_datasheet.pdf.pdf; ComponentLink2Description: DigiKey Link; ComponentLink2URL: http://digikey.com/product-detail/en/littelfuse-inc/P6SMB220CA/P6SMB220CALFCT-ND/1766676; LastUpdated: 9/2/2020 1:28:17 AM; Lifecycle Status: Active; Minimum Order: 1; Mounting Type: Surface Mount; Operating Temperature: -55°C ~ 150°C (TJ); Package / Case: DO-214AA, SMB; Packaging: TapeAndReel; PartId: 9080; Part Status: Active; Price: 0.14; Series: P6SMB; Supplier 1: DigiKey; Supplier Part Number 1: P6SMB220CALFCT-ND; Supplier Device Package: DO-214AA (SMBJ); Voltage - Clamping (Max) @ Ipp: 328V; Voltage - Reverse Standoff (Typ): 185V
footprint DO214AA SMB
pins: 1, 2

## P6SMB220CA-E3/52
designator D?
TVS DIODE 185V 328V DO214AA; Manufacturer: Vishay Semiconductor Diodes Division; Bidirectional Channels: 1; Current - Peak Pulse (10/1000µs): 1.8A; Power Line Protection: No; Power - Peak Pulse: 600W; Type: Zener; Voltage - Breakdown (Min): 209V; Part Number: P6SMB220CA-E3/52; Applications: General Purpose; ComponentLink1Description: Datasheet; ComponentLink1URL: http://www.vishay.com/docs/88370/p6smb.pdf; ComponentLink2Description: DigiKey Link; ComponentLink2URL: http://digikey.com/product-detail/en/vishay-semiconductor-diodes-division/P6SMB220CA-E3-52/P6SMB220CA-E3-52GICT-ND/3306497; LastUpdated: 9/2/2020 1:28:16 AM; Lifecycle Status: Active; Minimum Order: 1; Mounting Type: Surface Mount; Operating Temperature: -65°C ~ 150°C (TJ); Package / Case: DO-214AA, SMB; Packaging: TapeAndReel; PartId: 8928; Part Status: Active; Price: 0.20; Series: P6SMB, TransZorb®; Supplier 1: DigiKey; Supplier Part Number 1: P6SMB220CA-E3/52GICT-ND; Supplier Device Package: DO-214AA (SMB); Voltage - Clamping (Max) @ Ipp: 328V; Voltage - Reverse Standoff (Typ): 185V
footprint DO214AA SMB
pins: 1, 2

## P6SMB250A
designator D?
TVS DIODE 214V 344V DO214AA; Manufacturer: Bourns Inc.; Current - Peak Pulse (10/1000µs): 1.8A; Power Line Protection: No; Power - Peak Pulse: 600W; Type: Zener; Unidirectional Channels: 1; Voltage - Breakdown (Min): 237V; Part Number: P6SMB250A; Applications: General Purpose; ComponentLink1Description: Datasheet; ComponentLink1URL: https://www.bourns.com/docs/Product-Datasheets/P6SMB.pdf; ComponentLink2Description: DigiKey Link; ComponentLink2URL: http://digikey.com/product-detail/en/bourns-inc/P6SMB250A/P6SMB250ABBCT-ND/6181602; LastUpdated: 9/2/2020 1:19:45 AM; Lifecycle Status: Active; Minimum Order: 1; Mounting Type: Surface Mount; Operating Temperature: -55°C ~ 150°C (TJ); Package / Case: DO-214AA, SMB; Packaging: TapeAndReel; PartId: 10711; Part Status: Active; Price: 0.17; Series: -; Supplier 1: DigiKey; Supplier Part Number 1: P6SMB250ABBCT-ND; Supplier Device Package: DO-214AA (SMB); Voltage - Clamping (Max) @ Ipp: 344V; Voltage - Reverse Standoff (Typ): 214V
footprint DO214AA SMB
pins: 1, 2

## P6SMB250CA
designator D?
TVS DIODE 214V 344V DO214AA; Manufacturer: Bourns Inc.; Bidirectional Channels: 1; Current - Peak Pulse (10/1000µs): 1.8A; Power Line Protection: No; Power - Peak Pulse: 600W; Type: Zener; Voltage - Breakdown (Min): 237V; Part Number: P6SMB250CA; Applications: General Purpose; ComponentLink1Description: Datasheet; ComponentLink1URL: https://www.bourns.com/docs/Product-Datasheets/P6SMB.pdf; ComponentLink2Description: DigiKey Link; ComponentLink2URL: http://digikey.com/product-detail/en/bourns-inc/P6SMB250CA/P6SMB250CABBCT-ND/6708246; LastUpdated: 9/2/2020 1:28:16 AM; Lifecycle Status: Active; Minimum Order: 1; Mounting Type: Surface Mount; Operating Temperature: -55°C ~ 150°C (TJ); Package / Case: DO-214AA, SMB; Packaging: TapeAndReel; PartId: 8941; Part Status: Active; Price: 0.19; Series: -; Supplier 1: DigiKey; Supplier Part Number 1: P6SMB250CABBCT-ND; Supplier Device Package: DO-214AA (SMB); Voltage - Clamping (Max) @ Ipp: 344V; Voltage - Reverse Standoff (Typ): 214V
footprint DO214AA SMB
pins: 1, 2

## P6SMB300A
designator D?
TVS DIODE 256V 414V DO214AA; Manufacturer: Littelfuse Inc.; Current - Peak Pulse (10/1000µs): 1.5A; Power Line Protection: No; Power - Peak Pulse: 600W; Type: Zener; Unidirectional Channels: 1; Voltage - Breakdown (Min): 285V; Part Number: P6SMB300A; Applications: General Purpose; ComponentLink1Description: Datasheet; ComponentLink1URL: https://www.littelfuse.com/~/media/electronics/datasheets/tvs_diodes/littelfuse_tvs_diode_p6smb_datasheet.pdf.pdf; ComponentLink2Description: DigiKey Link; ComponentLink2URL: http://digikey.com/product-detail/en/littelfuse-inc/P6SMB300A/P6SMB300ALFCT-ND/1766685; LastUpdated: 9/2/2020 1:19:47 AM; Lifecycle Status: Active; Minimum Order: 1; Mounting Type: Surface Mount; Operating Temperature: -55°C ~ 150°C (TJ); Package / Case: DO-214AA, SMB; Packaging: TapeAndReel; PartId: 10908; Part Status: Active; Price: 0.12; Series: P6SMB; Supplier 1: DigiKey; Supplier Part Number 1: P6SMB300ALFCT-ND; Supplier Device Package: DO-214AA (SMBJ); Voltage - Clamping (Max) @ Ipp: 414V; Voltage - Reverse Standoff (Typ): 256V
footprint DO214AA SMB
pins: 1, 2

## P6SMB300CA
designator D?
TVS DIODE 256V 414V DO214AA; Manufacturer: Littelfuse Inc.; Bidirectional Channels: 1; Current - Peak Pulse (10/1000µs): 1.5A; Power Line Protection: No; Power - Peak Pulse: 600W; Type: Zener; Voltage - Breakdown (Min): 285V; Part Number: P6SMB300CA; Applications: General Purpose; ComponentLink1Description: Datasheet; ComponentLink1URL: https://www.littelfuse.com/~/media/electronics/datasheets/tvs_diodes/littelfuse_tvs_diode_p6smb_datasheet.pdf.pdf; ComponentLink2Description: DigiKey Link; ComponentLink2URL: http://digikey.com/product-detail/en/littelfuse-inc/P6SMB300CA/P6SMB300CALFCT-ND/1766686; LastUpdated: 9/2/2020 1:28:17 AM; Lifecycle Status: Active; Minimum Order: 1; Mounting Type: Surface Mount; Operating Temperature: -55°C ~ 150°C (TJ); Package / Case: DO-214AA, SMB; Packaging: TapeAndReel; PartId: 9081; Part Status: Active; Price: 0.23; Series: P6SMB; Supplier 1: DigiKey; Supplier Part Number 1: P6SMB300CALFCT-ND; Supplier Device Package: DO-214AA (SMBJ); Voltage - Clamping (Max) @ Ipp: 414V; Voltage - Reverse Standoff (Typ): 256V
footprint DO214AA SMB
pins: 1, 2

## P6SMB350A
designator D?
TVS DIODE 300V 482V DO214AA; Manufacturer: Bourns Inc.; Current - Peak Pulse (10/1000µs): 1.3A; Power Line Protection: No; Power - Peak Pulse: 600W; Type: Zener; Unidirectional Channels: 1; Voltage - Breakdown (Min): 332V; Part Number: P6SMB350A; Applications: General Purpose; ComponentLink1Description: Datasheet; ComponentLink1URL: https://www.bourns.com/docs/Product-Datasheets/P6SMB.pdf; ComponentLink2Description: DigiKey Link; ComponentLink2URL: http://digikey.com/product-detail/en/bourns-inc/P6SMB350A/P6SMB350ABBCT-ND/6708248; LastUpdated: 9/2/2020 1:19:45 AM; Lifecycle Status: Active; Minimum Order: 1; Mounting Type: Surface Mount; Operating Temperature: -55°C ~ 150°C (TJ); Package / Case: DO-214AA, SMB; Packaging: TapeAndReel; PartId: 10710; Part Status: Active; Price: 0.17; Series: -; Supplier 1: DigiKey; Supplier Part Number 1: P6SMB350ABBCT-ND; Supplier Device Package: DO-214AA (SMB); Voltage - Clamping (Max) @ Ipp: 482V; Voltage - Reverse Standoff (Typ): 300V
footprint DO214AA SMB
pins: 1, 2

## P6SMB350CA
designator D?
TVS DIODE 300V 482V DO214AA; Manufacturer: Littelfuse Inc.; Bidirectional Channels: 1; Current - Peak Pulse (10/1000µs): 1.3A; Power Line Protection: No; Power - Peak Pulse: 600W; Type: Zener; Voltage - Breakdown (Min): 332V; Part Number: P6SMB350CA; Applications: General Purpose; ComponentLink1Description: Datasheet; ComponentLink1URL: https://www.littelfuse.com/~/media/electronics/datasheets/tvs_diodes/littelfuse_tvs_diode_p6smb_datasheet.pdf.pdf; ComponentLink2Description: DigiKey Link; ComponentLink2URL: http://digikey.com/product-detail/en/littelfuse-inc/P6SMB350CA/P6SMB350CALFCT-ND/1766692; LastUpdated: 9/2/2020 1:28:16 AM; Lifecycle Status: Active; Minimum Order: 1; Mounting Type: Surface Mount; Operating Temperature: -55°C ~ 150°C (TJ); Package / Case: DO-214AA, SMB; Packaging: TapeAndReel; PartId: 8910; Part Status: Active; Price: 0.24; Series: P6SMB; Supplier 1: DigiKey; Supplier Part Number 1: P6SMB350CALFCT-ND; Supplier Device Package: DO-214AA (SMBJ); Voltage - Clamping (Max) @ Ipp: 482V; Voltage - Reverse Standoff (Typ): 300V
footprint DO214AA SMB
pins: 1, 2

## P6SMB400A
designator D?
TVS DIODE 342V 548V DO214AA; Manufacturer: Bourns Inc.; Current - Peak Pulse (10/1000µs): 1.1A; Power Line Protection: No; Power - Peak Pulse: 600W; Type: Zener; Unidirectional Channels: 1; Voltage - Breakdown (Min): 380V; Part Number: P6SMB400A; Applications: General Purpose; ComponentLink1Description: Datasheet; ComponentLink1URL: https://www.bourns.com/docs/Product-Datasheets/P6SMB.pdf; ComponentLink2Description: DigiKey Link; ComponentLink2URL: http://digikey.com/product-detail/en/bourns-inc/P6SMB400A/P6SMB400ABBCT-ND/6181611; LastUpdated: 9/2/2020 1:19:44 AM; Lifecycle Status: Active; Minimum Order: 1; Mounting Type: Surface Mount; Operating Temperature: -55°C ~ 150°C (TJ); Package / Case: DO-214AA, SMB; Packaging: TapeAndReel; PartId: 10621; Part Status: Active; Price: 0.15; Series: -; Supplier 1: DigiKey; Supplier Part Number 1: P6SMB400ABBCT-ND; Supplier Device Package: DO-214AA (SMB); Voltage - Clamping (Max) @ Ipp: 548V; Voltage - Reverse Standoff (Typ): 342V
footprint DO214AA SMB
pins: 1, 2

## P6SMB400CA
designator D?
TVS DIODE 342V 548V DO214AA; Manufacturer: Bourns Inc.; Bidirectional Channels: 1; Current - Peak Pulse (10/1000µs): 1.1A; Power Line Protection: No; Power - Peak Pulse: 600W; Type: Zener; Voltage - Breakdown (Min): 380V; Part Number: P6SMB400CA; Applications: General Purpose; ComponentLink1Description: Datasheet; ComponentLink1URL: https://www.bourns.com/docs/Product-Datasheets/P6SMB.pdf; ComponentLink2Description: DigiKey Link; ComponentLink2URL: http://digikey.com/product-detail/en/bourns-inc/P6SMB400CA/P6SMB400CABBCT-ND/6708252; LastUpdated: 9/2/2020 1:28:16 AM; Lifecycle Status: Active; Minimum Order: 1; Mounting Type: Surface Mount; Operating Temperature: -55°C ~ 150°C (TJ); Package / Case: DO-214AA, SMB; Packaging: TapeAndReel; PartId: 8942; Part Status: Active; Price: 0.19; Series: -; Supplier 1: DigiKey; Supplier Part Number 1: P6SMB400CABBCT-ND; Supplier Device Package: DO-214AA (SMB); Voltage - Clamping (Max) @ Ipp: 548V; Voltage - Reverse Standoff (Typ): 342V
footprint DO214AA SMB
pins: 1, 2

## P6SMB440A
designator D?
TVS DIODE 376V 602V DO214AA; Manufacturer: Bourns Inc.; Current - Peak Pulse (10/1000µs): 1A; Power Line Protection: No; Power - Peak Pulse: 600W; Type: Zener; Unidirectional Channels: 1; Voltage - Breakdown (Min): 418V; Part Number: P6SMB440A; Applications: General Purpose; ComponentLink1Description: Datasheet; ComponentLink1URL: https://www.bourns.com/docs/Product-Datasheets/P6SMB.pdf; ComponentLink2Description: DigiKey Link; ComponentLink2URL: http://digikey.com/product-detail/en/bourns-inc/P6SMB440A/P6SMB440ABBCT-ND/6181612; LastUpdated: 9/2/2020 1:19:43 AM; Lifecycle Status: Active; Minimum Order: 1; Mounting Type: Surface Mount; Operating Temperature: -55°C ~ 150°C (TJ); Package / Case: DO-214AA, SMB; Packaging: TapeAndReel; PartId: 10600; Part Status: Active; Price: 0.17; Series: -; Supplier 1: DigiKey; Supplier Part Number 1: P6SMB440ABBCT-ND; Supplier Device Package: DO-214AA (SMB); Voltage - Clamping (Max) @ Ipp: 602V; Voltage - Reverse Standoff (Typ): 376V
footprint DO214AA SMB
pins: 1, 2

## P6SMB440CA
designator D?
TVS DIODE 376V 602V DO214AA; Manufacturer: Littelfuse Inc.; Bidirectional Channels: 1; Current - Peak Pulse (10/1000µs): 1A; Power Line Protection: No; Power - Peak Pulse: 600W; Type: Zener; Voltage - Breakdown (Min): 418V; Part Number: P6SMB440CA; Applications: General Purpose; ComponentLink1Description: Datasheet; ComponentLink1URL: https://www.littelfuse.com/~/media/electronics/datasheets/tvs_diodes/littelfuse_tvs_diode_p6smb_datasheet.pdf.pdf; ComponentLink2Description: DigiKey Link; ComponentLink2URL: http://digikey.com/product-detail/en/littelfuse-inc/P6SMB440CA/P6SMB440CALFCT-ND/1766702; LastUpdated: 9/2/2020 1:28:17 AM; Lifecycle Status: Active; Minimum Order: 1; Mounting Type: Surface Mount; Operating Temperature: -55°C ~ 150°C (TJ); Package / Case: DO-214AA, SMB; Packaging: TapeAndReel; PartId: 9084; Part Status: Active; Price: 0.24; Series: P6SMB; Supplier 1: DigiKey; Supplier Part Number 1: P6SMB440CALFCT-ND; Supplier Device Package: DO-214AA (SMBJ); Voltage - Clamping (Max) @ Ipp: 602V; Voltage - Reverse Standoff (Typ): 376V
footprint DO214AA SMB
pins: 1, 2

## P6SMB480A
designator D?
TVS DIODE 408V 658V DO214AA; Manufacturer: Littelfuse Inc.; Current - Peak Pulse (10/1000µs): 900mA; Power Line Protection: No; Power - Peak Pulse: 600W; Type: Zener; Unidirectional Channels: 1; Voltage - Breakdown (Min): 456V; Part Number: P6SMB480A; Applications: General Purpose; ComponentLink1Description: Datasheet; ComponentLink1URL: https://www.littelfuse.com/~/media/electronics/datasheets/tvs_diodes/littelfuse_tvs_diode_p6smb_datasheet.pdf.pdf; ComponentLink2Description: DigiKey Link; ComponentLink2URL: http://digikey.com/product-detail/en/littelfuse-inc/P6SMB480A/P6SMB480ALFCT-ND/1766706; LastUpdated: 9/2/2020 1:19:45 AM; Lifecycle Status: Active; Minimum Order: 1; Mounting Type: Surface Mount; Operating Temperature: -55°C ~ 150°C (TJ); Package / Case: DO-214AA, SMB; Packaging: TapeAndReel; PartId: 10732; Part Status: Active; Price: 0.23; Series: P6SMB; Supplier 1: DigiKey; Supplier Part Number 1: P6SMB480ALFCT-ND; Supplier Device Package: DO-214AA (SMBJ); Voltage - Clamping (Max) @ Ipp: 658V; Voltage - Reverse Standoff (Typ): 408V
footprint DO214AA SMB
pins: 1, 2